# EAGLE library part MCP4822 (library NEWPARTS)
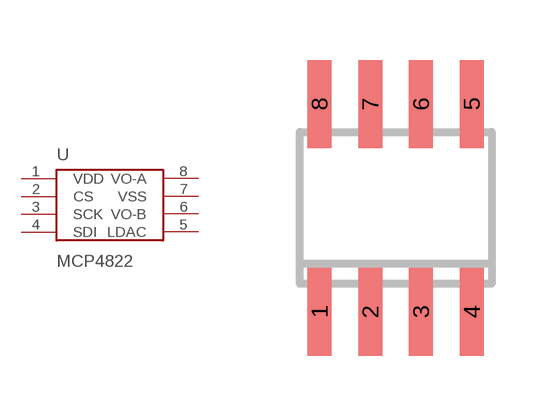
[diagram p7: symbol with the pads of SO08; footprint SO08]

Designator prefix -

## MCP4822  [SO08]
1  VDD
2  CS
3  SCK
4  SDI
5  LDAC
6  VO-B
7  VSS
8  VO-A

## Footprint SO08 (pad centres in mm)
Small Outline Package 8 NS Package M08A
smd 0.6 x 2.2: 1 -1.905,-2.6; 2 -0.635,-2.6; 3 0.635,-2.6; 4 1.905,-2.6; 5 1.905,2.6; 6 0.635,2.6; 7 -0.635,2.6; 8 -1.905,2.6